# Altium integrated library BB Converter Voltage to Frequency.IntLib: 30 symbols
Pins are listed as number, name and electrical type; pins without a type are passive.

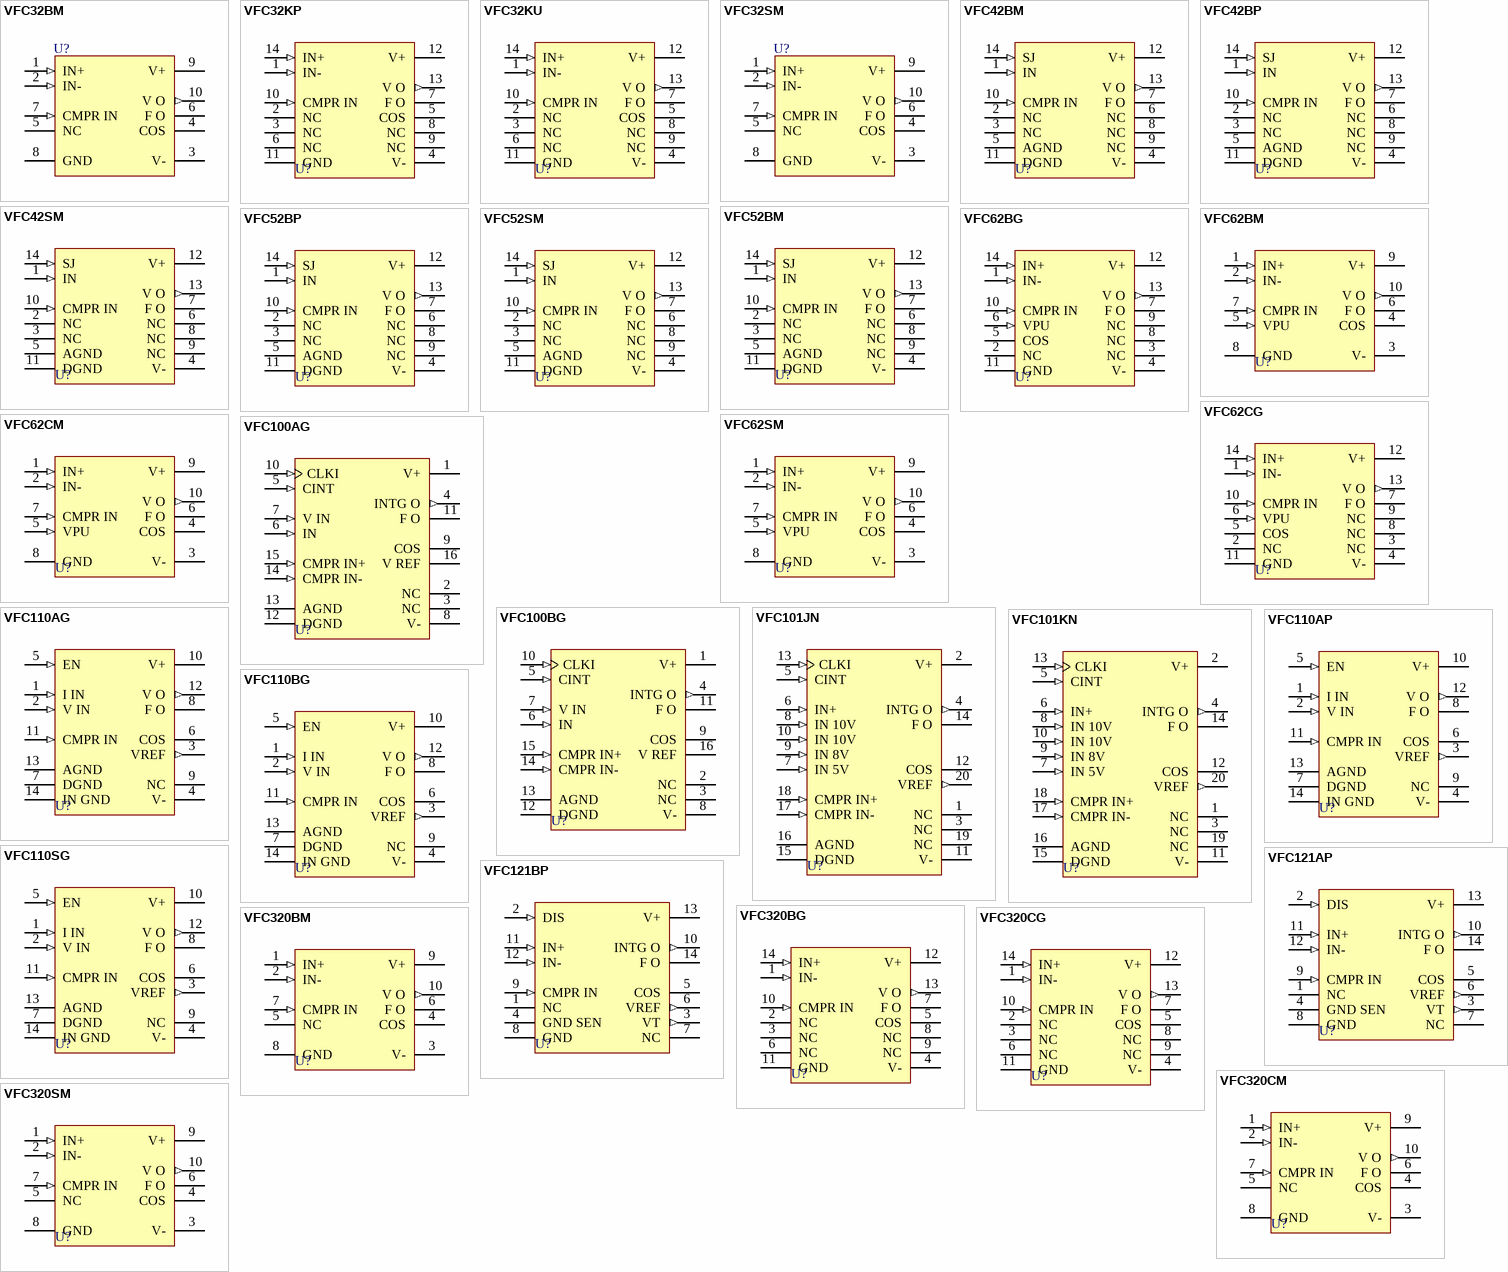
[diagram p0: symbols VFC32BM to VFC320SM]

## VFC32BM
designator U?
Voltage-to-Frequency and Frequency-to-Voltage Converter; Note: Pin 5 is No internal Connection (NC) pin. Case is connected to pin 3 (-VCC); Published: 8-Jun-2000; LatestRevisionDate: 17-Jul-2002; LatestRevisionNote: Re-released for DXP Platform.; DatasheetVersion: Oct-1998; PackageVersion: revA; PackageReference: ZZ007; Publisher: Altium Limited; PackageDescription: Can; 10 Leads; Pin Circle Dia. 5.84 mm (TO-100); Lead Dia. 0.53 mm (max); ComponentLink1Description: Manufacturer Link; ComponentLink1URL: http://www.ti.com/; ComponentLink2Description: Datasheet; ComponentLink2URL: http://www-s.ti.com/sc/ds/VFC32.pdf
footprint ZZ007 (Can; 10 Leads; Pin Circle Dia. 5.84 mm (TO-100); Lead Dia. 0.53 mm (max))
pins: 1 IN+ (in), 2 IN- (in), 3 V- (power), 4 COS, 5 NC, 6 F O (oc), 7 CMPR IN (in), 8 GND (power), 9 V+ (power), 10 V O (out)

## VFC32KP
designator U?
Voltage-to-Frequency and Frequency-to-Voltage Converter; Note: Pins 2,3,6,8 and 9 are No internal Connection (NC) pins.; Published: 8-Jun-2000; LatestRevisionDate: 06-Jun-2005; LatestRevisionNote: Stylized 3D Model Added.; DatasheetVersion: Oct-1998; PackageVersion: 1996/1997; PackageReference: 010G; Publisher: Altium Limited; PackageDescription: DIP; 14 Leads; Row Spacing 7.62 mm; Pitch 2.54 mm; ComponentLink1Description: Manufacturer Link; ComponentLink1URL: http://www.ti.com/; ComponentLink2Description: Datasheet; ComponentLink2URL: http://www-s.ti.com/sc/ds/VFC32.pdf
footprint 010G (DIP; 14 Leads; Row Spacing 7.62 mm; Pitch 2.54 mm)
3D model 010G (DIP; 14 Leads; Row Spacing 7.62 mm; Pitch 2.54 mm)
pins: 1 IN- (in), 2 NC, 3 NC, 4 V- (power), 5 COS, 6 NC, 7 F O (oc), 8 NC, 9 NC, 10 CMPR IN (in), 11 GND (power), 12 V+ (power), 13 V O (out), 14 IN+ (in)

## VFC32KU
designator U?
Voltage-to-Frequency and Frequency-to-Voltage Converter; Note: Pins 2,3,6,8 and 9 are No internal Connection (NC) pins.; Published: 8-Jun-2000; LatestRevisionDate: 13-Apr-2006; LatestRevisionNote: IPC-7351 Footprint Added.; DatasheetVersion: Oct-1998; PackageReference: 235E; Publisher: Altium Limited; PackageDescription: 14-Pin Small Outline Integrated Circuit 1.27 mm Pitch; Code_JEDEC: MS-012-AB; Code_IPC: SOIC127P600-14; ComponentLink1Description: Manufacturer Link; ComponentLink1URL: http://www.ti.com/; ComponentLink2Description: Datasheet; ComponentLink2URL: http://www-s.ti.com/sc/ds/VFC32.pdf
footprint 235E_N (SOIC, 14-Leads, Body 8.7x3.9mm, Pitch 1.27mm, IPC Medium Density)
footprint 235E_L (SOIC, 14-Leads, Body 8.7x3.9mm, Pitch 1.27mm, IPC High Density)
footprint 235E_M (SOIC, 14-Leads, Body 8.7x3.9mm, Pitch 1.27mm, IPC Low Density)
3D model SOIC14 (14-Pin Small Outline Integrated Circuit 1.27 mm Pitch)
pins: 1 IN- (in), 2 NC, 3 NC, 4 V- (power), 5 COS, 6 NC, 7 F O (oc), 8 NC, 9 NC, 10 CMPR IN (in), 11 GND (power), 12 V+ (power), 13 V O (out), 14 IN+ (in)

## VFC32SM
designator U?
Voltage-to-Frequency and Frequency-to-Voltage Converter; Note: Pin 5 is No internal Connection (NC) pin. Case is connected to pin 3 (-VCC); Published: 8-Jun-2000; LatestRevisionDate: 17-Jul-2002; LatestRevisionNote: Re-released for DXP Platform.; DatasheetVersion: Oct-1998; PackageVersion: revA; PackageReference: ZZ007; Publisher: Altium Limited; PackageDescription: Can; 10 Leads; Pin Circle Dia. 5.84 mm (TO-100); Lead Dia. 0.53 mm (max); ComponentLink1Description: Manufacturer Link; ComponentLink1URL: http://www.ti.com/; ComponentLink2Description: Datasheet; ComponentLink2URL: http://www-s.ti.com/sc/ds/VFC32.pdf
footprint ZZ007 (Can; 10 Leads; Pin Circle Dia. 5.84 mm (TO-100); Lead Dia. 0.53 mm (max))
pins: 1 IN+ (in), 2 IN- (in), 3 V- (power), 4 COS, 5 NC, 6 F O (oc), 7 CMPR IN (in), 8 GND (power), 9 V+ (power), 10 V O (out)

## VFC42BM
designator U?
Voltage-to-Frequency and Frequency-to-Voltage Converter; Note: Pins 2, 3, 6, 8 and 9 are No internal Connection (NC) pins.; Published: 8-Jun-2000; LatestRevisionDate: 17-Jul-2002; LatestRevisionNote: Re-released for DXP Platform.; DatasheetVersion: 1989; PackageVersion: 1994; PackageReference: ZZ107; Publisher: Altium Limited; PackageDescription: DIP; 14 Round Pins; Row Space 7.62 mm; Pitch 2.54 mm; ComponentLink1Description: Manufacturer Link; ComponentLink1URL: http://www.ti.com/
footprint ZZ107 (DIP; 14 Round Pins; Row Space 7.62 mm; Pitch 2.54 mm)
pins: 1 IN (in), 2 NC, 3 NC, 4 V- (power), 5 AGND (power), 6 NC, 7 F O (oc), 8 NC, 9 NC, 10 CMPR IN (in), 11 DGND (power), 12 V+ (power), 13 V O (out), 14 SJ (in)

## VFC42BP
designator U?
Voltage-to-Frequency and Frequency-to-Voltage Converter; Note: Pins 2, 3, 6, 8 and 9 are No internal Connection (NC) pins.; Published: 8-Jun-2000; LatestRevisionDate: 17-Jul-2002; LatestRevisionNote: Re-released for DXP Platform.; DatasheetVersion: 1989; PackageVersion: 1995; PackageReference: ZZ003; Publisher: Altium Limited; PackageDescription: DIP; 14 Round Pins; Row Space 7.62 mm; Pitch 2.54 mm; ComponentLink1Description: Manufacturer Link; ComponentLink1URL: http://www.ti.com/
footprint ZZ003 (DIP; 14 Round Pins; Row Space 7.62 mm; Pitch 2.54 mm)
pins: 1 IN (in), 2 NC, 3 NC, 4 V- (power), 5 AGND (power), 6 NC, 7 F O (oc), 8 NC, 9 NC, 10 CMPR IN (in), 11 DGND (power), 12 V+ (power), 13 V O (out), 14 SJ (in)

## VFC42SM
designator U?
Voltage-to-Frequency and Frequency-to-Voltage Converter; Note: Pins 2, 3, 6, 8 and 9 are No internal Connection (NC) pins.; Published: 8-Jun-2000; LatestRevisionDate: 17-Jul-2002; LatestRevisionNote: Re-released for DXP Platform.; DatasheetVersion: 1989; PackageVersion: 1994; PackageReference: ZZ107; Publisher: Altium Limited; PackageDescription: DIP; 14 Round Pins; Row Space 7.62 mm; Pitch 2.54 mm; ComponentLink1Description: Manufacturer Link; ComponentLink1URL: http://www.ti.com/
footprint ZZ107 (DIP; 14 Round Pins; Row Space 7.62 mm; Pitch 2.54 mm)
pins: 1 IN (in), 2 NC, 3 NC, 4 V- (power), 5 AGND (power), 6 NC, 7 F O (oc), 8 NC, 9 NC, 10 CMPR IN (in), 11 DGND (power), 12 V+ (power), 13 V O (out), 14 SJ (in)

## VFC52BM
designator U?
Voltage-to-Frequency and Frequency-to-Voltage Converter; Note: Pins 2, 3, 6, 8 and 9 are No internal Connection (NC) pins.; Published: 8-Jun-2000; LatestRevisionDate: 17-Jul-2002; LatestRevisionNote: Re-released for DXP Platform.; DatasheetVersion: 1989; PackageVersion: 1994; PackageReference: ZZ107; Publisher: Altium Limited; PackageDescription: DIP; 14 Round Pins; Row Space 7.62 mm; Pitch 2.54 mm; ComponentLink1Description: Manufacturer Link; ComponentLink1URL: http://www.ti.com/
footprint ZZ107 (DIP; 14 Round Pins; Row Space 7.62 mm; Pitch 2.54 mm)
pins: 1 IN (in), 2 NC, 3 NC, 4 V- (power), 5 AGND (power), 6 NC, 7 F O (oc), 8 NC, 9 NC, 10 CMPR IN (in), 11 DGND (power), 12 V+ (power), 13 V O (out), 14 SJ (in)

## VFC52BP
designator U?
Voltage-to-Frequency and Frequency-to-Voltage Converter; Note: Pins 2, 3, 6, 8 and 9 are No internal Connection (NC) pins.; Published: 8-Jun-2000; LatestRevisionDate: 17-Jul-2002; LatestRevisionNote: Re-released for DXP Platform.; DatasheetVersion: 1989; PackageVersion: 1995; PackageReference: ZZ003; Publisher: Altium Limited; PackageDescription: DIP; 14 Round Pins; Row Space 7.62 mm; Pitch 2.54 mm; ComponentLink1Description: Manufacturer Link; ComponentLink1URL: http://www.ti.com/
footprint ZZ003 (DIP; 14 Round Pins; Row Space 7.62 mm; Pitch 2.54 mm)
pins: 1 IN (in), 2 NC, 3 NC, 4 V- (power), 5 AGND (power), 6 NC, 7 F O (oc), 8 NC, 9 NC, 10 CMPR IN (in), 11 DGND (power), 12 V+ (power), 13 V O (out), 14 SJ (in)

## VFC52SM
designator U?
Voltage-to-Frequency and Frequency-to-Voltage Converter; Note: Pins 2, 3, 6, 8 and 9 are No internal Connection (NC) pins.; Published: 8-Jun-2000; LatestRevisionDate: 17-Jul-2002; LatestRevisionNote: Re-released for DXP Platform.; DatasheetVersion: 1989; PackageVersion: 1994; PackageReference: ZZ107; Publisher: Altium Limited; PackageDescription: DIP; 14 Round Pins; Row Space 7.62 mm; Pitch 2.54 mm; ComponentLink1Description: Manufacturer Link; ComponentLink1URL: http://www.ti.com/
footprint ZZ107 (DIP; 14 Round Pins; Row Space 7.62 mm; Pitch 2.54 mm)
pins: 1 IN (in), 2 NC, 3 NC, 4 V- (power), 5 AGND (power), 6 NC, 7 F O (oc), 8 NC, 9 NC, 10 CMPR IN (in), 11 DGND (power), 12 V+ (power), 13 V O (out), 14 SJ (in)

## VFC62BG
designator U?
Voltage-to-Frequency and Frequency-to-Voltage Converter; Note: Pins 2, 3, 8 and 9 are No internal Connection (NC) pins.; Published: 8-Jun-2000; LatestRevisionDate: 06-Jun-2005; LatestRevisionNote: Stylized 3D Model Added.; DatasheetVersion: 1989; PackageVersion: 1994; PackageReference: 137; Publisher: Altium Limited; PackageDescription: DIP; 14 Leads; Row Spacing 7.62 mm; Pitch 2.54 mm; ComponentLink1Description: Manufacturer Link; ComponentLink1URL: http://www.ti.com/
footprint 137 (DIP; 14 Leads; Row Spacing 7.62 mm; Pitch 2.54 mm)
3D model 137 (DIP; 14 Leads; Row Spacing 7.62 mm; Pitch 2.54 mm)
pins: 1 IN- (in), 2 NC, 3 NC, 4 V- (power), 5 COS, 6 VPU (in), 7 F O (oc), 8 NC, 9 NC, 10 CMPR IN (in), 11 GND (power), 12 V+ (power), 13 V O (out), 14 IN+ (in)

## VFC62BM
designator U?
Voltage-to-Frequency and Frequency-to-Voltage Converter; Note: Case is connected to pin 3 (-VCC); Published: 8-Jun-2000; LatestRevisionDate: 17-Jul-2002; LatestRevisionNote: Re-released for DXP Platform.; DatasheetVersion: 1989; PackageVersion: revA; PackageReference: ZZ007; Publisher: Altium Limited; PackageDescription: Can; 10 Leads; Pin Circle Dia. 5.84 mm (TO-100); Lead Dia. 0.53 mm (max); ComponentLink1Description: Manufacturer Link; ComponentLink1URL: http://www.ti.com/
footprint ZZ007 (Can; 10 Leads; Pin Circle Dia. 5.84 mm (TO-100); Lead Dia. 0.53 mm (max))
pins: 1 IN+ (in), 2 IN- (in), 3 V- (power), 4 COS, 5 VPU (in), 6 F O (oc), 7 CMPR IN (in), 8 GND (power), 9 V+ (power), 10 V O (out)

## VFC62CG
designator U?
Voltage-to-Frequency and Frequency-to-Voltage Converter; Note: Pins 2, 3, 8 and 9 are No internal Connection (NC) pins.; Published: 8-Jun-2000; LatestRevisionDate: 06-Jun-2005; LatestRevisionNote: Stylized 3D Model Added.; DatasheetVersion: 1989; PackageVersion: 1994; PackageReference: 137; Publisher: Altium Limited; PackageDescription: DIP; 14 Leads; Row Spacing 7.62 mm; Pitch 2.54 mm; ComponentLink1Description: Manufacturer Link; ComponentLink1URL: http://www.ti.com/
footprint 137 (DIP; 14 Leads; Row Spacing 7.62 mm; Pitch 2.54 mm)
3D model 137 (DIP; 14 Leads; Row Spacing 7.62 mm; Pitch 2.54 mm)
pins: 1 IN- (in), 2 NC, 3 NC, 4 V- (power), 5 COS, 6 VPU (in), 7 F O (oc), 8 NC, 9 NC, 10 CMPR IN (in), 11 GND (power), 12 V+ (power), 13 V O (out), 14 IN+ (in)

## VFC62CM
designator U?
Voltage-to-Frequency and Frequency-to-Voltage Converter; Note: Case is connected to pin 3 (-VCC); Published: 8-Jun-2000; LatestRevisionDate: 17-Jul-2002; LatestRevisionNote: Re-released for DXP Platform.; DatasheetVersion: 1989; PackageVersion: revA; PackageReference: ZZ007; Publisher: Altium Limited; PackageDescription: Can; 10 Leads; Pin Circle Dia. 5.84 mm (TO-100); Lead Dia. 0.53 mm (max); ComponentLink1Description: Manufacturer Link; ComponentLink1URL: http://www.ti.com/
footprint ZZ007 (Can; 10 Leads; Pin Circle Dia. 5.84 mm (TO-100); Lead Dia. 0.53 mm (max))
pins: 1 IN+ (in), 2 IN- (in), 3 V- (power), 4 COS, 5 VPU (in), 6 F O (oc), 7 CMPR IN (in), 8 GND (power), 9 V+ (power), 10 V O (out)

## VFC62SM
designator U?
Voltage-to-Frequency and Frequency-to-Voltage Converter; Note: Case is connected to pin 3 (-VCC); Published: 8-Jun-2000; LatestRevisionDate: 17-Jul-2002; LatestRevisionNote: Re-released for DXP Platform.; DatasheetVersion: 1989; PackageVersion: revA; PackageReference: ZZ007; Publisher: Altium Limited; PackageDescription: Can; 10 Leads; Pin Circle Dia. 5.84 mm (TO-100); Lead Dia. 0.53 mm (max); ComponentLink1Description: Manufacturer Link; ComponentLink1URL: http://www.ti.com/
footprint ZZ007 (Can; 10 Leads; Pin Circle Dia. 5.84 mm (TO-100); Lead Dia. 0.53 mm (max))
pins: 1 IN+ (in), 2 IN- (in), 3 V- (power), 4 COS, 5 VPU (in), 6 F O (oc), 7 CMPR IN (in), 8 GND (power), 9 V+ (power), 10 V O (out)

## VFC100AG
designator U?
Synchronized Voltage-to-Frequency Converter; Note: Pins 2 and 3 are No internal Connection (NC) pins.; Published: 8-Jun-2000; LatestRevisionDate: 06-Jun-2005; LatestRevisionNote: Stylized 3D Model Added.; DatasheetVersion: Jun-1995; PackageVersion: revD; PackageReference: ZZ129; Publisher: Altium Limited; PackageDescription: CerDIP; 16 Leads; Row Spacing 7.62 mm; Pitch 2.54 mm; ComponentLink1Description: Manufacturer Link; ComponentLink1URL: http://www.ti.com/; ComponentLink2Description: Datasheet; ComponentLink2URL: http://www-s.ti.com/sc/ds/VFC100.pdf
footprint ZZ129 (CerDIP; 16 Leads; Row Spacing 7.62 mm; Pitch 2.54 mm)
3D model ZZ129 (CerDIP; 16 Leads; Row Spacing 7.62 mm; Pitch 2.54 mm)
pins: 1 V+ (power), 2 NC, 3 NC, 4 INTG O (out), 5 CINT (in), 6 IN (in), 7 V IN (in), 8 V- (power), 9 COS, 10 CLKI (in), 11 F O (oc), 12 DGND (power), 13 AGND (power), 14 CMPR IN- (in), 15 CMPR IN+ (in), 16 V REF

## VFC100BG
designator U?
Synchronized Voltage-to-Frequency Converter; Note: Pins 2 and 3 are No internal Connection (NC) pins.; Published: 8-Jun-2000; LatestRevisionDate: 06-Jun-2005; LatestRevisionNote: Stylized 3D Model Added.; DatasheetVersion: Jun-1995; PackageVersion: revD; PackageReference: ZZ129; Publisher: Altium Limited; PackageDescription: CerDIP; 16 Leads; Row Spacing 7.62 mm; Pitch 2.54 mm; ComponentLink1Description: Manufacturer Link; ComponentLink1URL: http://www.ti.com/; ComponentLink2Description: Datasheet; ComponentLink2URL: http://www-s.ti.com/sc/ds/VFC100.pdf
footprint ZZ129 (CerDIP; 16 Leads; Row Spacing 7.62 mm; Pitch 2.54 mm)
3D model ZZ129 (CerDIP; 16 Leads; Row Spacing 7.62 mm; Pitch 2.54 mm)
pins: 1 V+ (power), 2 NC, 3 NC, 4 INTG O (out), 5 CINT (in), 6 IN (in), 7 V IN (in), 8 V- (power), 9 COS, 10 CLKI (in), 11 F O (oc), 12 DGND (power), 13 AGND (power), 14 CMPR IN- (in), 15 CMPR IN+ (in), 16 V REF

## VFC101JN
designator U?
Synchronized Voltage-to-Frequency Converter; Note: Pins 1, 3 and 19 are No internal Connection (NC) pins.; Published: 8-Jun-2000; LatestRevisionDate: 13-Apr-2006; LatestRevisionNote: IPC-7351 Footprint Added.; DatasheetVersion: 1989; PackageVersion: 1994; PackageReference: 181; Publisher: Altium Limited; PackageDescription: 20-Pin Leaded Chip Carrier 1.27 mm Pitch; Code_IPC: PLCC-20; ComponentLink1Description: Manufacturer Link; ComponentLink1URL: http://www.ti.com/
footprint 181_N (Leaded Chip Carrier, 20-Leads, Body 9x9mm, Pitch 1.27mm, IPC Medium Density)
footprint 181_L (Leaded Chip Carrier, 20-Leads, Body 9x9mm, Pitch 1.27mm, IPC High Density)
footprint 181_M (Leaded Chip Carrier, 20-Leads, Body 9x9mm, Pitch 1.27mm, IPC Low Density)
3D model VFC101JN-LCC20 (20-Pin Leaded Chip Carrier 1.27 mm Pitch)
pins: 1 NC, 2 V+ (power), 3 NC, 4 INTG O (out), 5 CINT (in), 6 IN+ (in), 7 IN 5V (in), 8 IN 10V (in), 9 IN 8V (in), 10 IN 10V (in), 11 V- (power), 12 COS, 13 CLKI (in), 14 F O (oc), 15 DGND (power), 16 AGND (power), 17 CMPR IN- (in), 18 CMPR IN+ (in), 19 NC, 20 VREF (out)

## VFC101KN
designator U?
Synchronized Voltage-to-Frequency Converter; Note: Pins 1, 3 and 19 are No internal Connection (NC) pins.; Published: 8-Jun-2000; LatestRevisionDate: 13-Apr-2006; LatestRevisionNote: IPC-7351 Footprint Added.; DatasheetVersion: 1989; PackageVersion: 1994; PackageReference: 181; Publisher: Altium Limited; PackageDescription: 20-Pin Leaded Chip Carrier 1.27 mm Pitch; Code_IPC: PLCC-20; ComponentLink1Description: Manufacturer Link; ComponentLink1URL: http://www.ti.com/
footprint 181_N (Leaded Chip Carrier, 20-Leads, Body 9x9mm, Pitch 1.27mm, IPC Medium Density)
footprint 181_L (Leaded Chip Carrier, 20-Leads, Body 9x9mm, Pitch 1.27mm, IPC High Density)
footprint 181_M (Leaded Chip Carrier, 20-Leads, Body 9x9mm, Pitch 1.27mm, IPC Low Density)
3D model VFC101KN-LCC20 (20-Pin Leaded Chip Carrier 1.27 mm Pitch)
pins: 1 NC, 2 V+ (power), 3 NC, 4 INTG O (out), 5 CINT (in), 6 IN+ (in), 7 IN 5V (in), 8 IN 10V (in), 9 IN 8V (in), 10 IN 10V (in), 11 V- (power), 12 COS, 13 CLKI (in), 14 F O (oc), 15 DGND (power), 16 AGND (power), 17 CMPR IN- (in), 18 CMPR IN+ (in), 19 NC, 20 VREF (out)

## VFC110AG
designator U?
High-Frequency Voltage-to-Frequency Converter; Note: Pin 9 is No internal Connection (NC) pin.; Published: 8-Jun-2000; LatestRevisionDate: 06-Jun-2005; LatestRevisionNote: Stylized 3D Model Added.; DatasheetVersion: Oct-1993; PackageVersion: 1996/1997; PackageReference: 169F; Publisher: Altium Limited; PackageDescription: DIP; 14 Leads; Row Spacing 7.62 mm; Pitch 2.54 mm; ComponentLink1Description: Manufacturer Link; ComponentLink1URL: http://www.ti.com/; ComponentLink2Description: Datasheet; ComponentLink2URL: http://www-s.ti.com/sc/ds/VFC110.pdf
footprint 169F (DIP; 14 Leads; Row Spacing 7.62 mm; Pitch 2.54 mm)
3D model 010G (DIP; 14 Leads; Row Spacing 7.62 mm; Pitch 2.54 mm)
pins: 1 I IN (in), 2 V IN (in), 3 VREF (out), 4 V- (power), 5 EN (in), 6 COS, 7 DGND (power), 8 F O (oc), 9 NC, 10 V+ (power), 11 CMPR IN (in), 12 V O (out), 13 AGND (power), 14 IN GND (power)

## VFC110AP
designator U?
High-Frequency Voltage-to-Frequency Converter; Note: Pin 9 is No internal Connection (NC) pin.; Published: 8-Jun-2000; LatestRevisionDate: 06-Jun-2005; LatestRevisionNote: Stylized 3D Model Added.; DatasheetVersion: Oct-1993; PackageVersion: 1996/1997; PackageReference: 010G; Publisher: Altium Limited; PackageDescription: DIP; 14 Leads; Row Spacing 7.62 mm; Pitch 2.54 mm; ComponentLink1Description: Manufacturer Link; ComponentLink1URL: http://www.ti.com/; ComponentLink2Description: Datasheet; ComponentLink2URL: http://www-s.ti.com/sc/ds/VFC110.pdf
footprint 010G (DIP; 14 Leads; Row Spacing 7.62 mm; Pitch 2.54 mm)
3D model 010G (DIP; 14 Leads; Row Spacing 7.62 mm; Pitch 2.54 mm)
pins: 1 I IN (in), 2 V IN (in), 3 VREF (out), 4 V- (power), 5 EN (in), 6 COS, 7 DGND (power), 8 F O (oc), 9 NC, 10 V+ (power), 11 CMPR IN (in), 12 V O (out), 13 AGND (power), 14 IN GND (power)

## VFC110BG
designator U?
High-Frequency Voltage-to-Frequency Converter; Note: Pin 9 is No internal Connection (NC) pin.; Published: 8-Jun-2000; LatestRevisionDate: 06-Jun-2005; LatestRevisionNote: Stylized 3D Model Added.; DatasheetVersion: Oct-1993; PackageVersion: 1996/1997; PackageReference: 169F; Publisher: Altium Limited; PackageDescription: DIP; 14 Leads; Row Spacing 7.62 mm; Pitch 2.54 mm; ComponentLink1Description: Manufacturer Link; ComponentLink1URL: http://www.ti.com/; ComponentLink2Description: Datasheet; ComponentLink2URL: http://www-s.ti.com/sc/ds/VFC110.pdf
footprint 169F (DIP; 14 Leads; Row Spacing 7.62 mm; Pitch 2.54 mm)
3D model 010G (DIP; 14 Leads; Row Spacing 7.62 mm; Pitch 2.54 mm)
pins: 1 I IN (in), 2 V IN (in), 3 VREF (out), 4 V- (power), 5 EN (in), 6 COS, 7 DGND (power), 8 F O (oc), 9 NC, 10 V+ (power), 11 CMPR IN (in), 12 V O (out), 13 AGND (power), 14 IN GND (power)

## VFC110SG
designator U?
High-Frequency Voltage-to-Frequency Converter; Note: Pin 9 is No internal Connection (NC) pin.; Published: 8-Jun-2000; LatestRevisionDate: 06-Jun-2005; LatestRevisionNote: Stylized 3D Model Added.; DatasheetVersion: Oct-1993; PackageVersion: 1996/1997; PackageReference: 169F; Publisher: Altium Limited; PackageDescription: DIP; 14 Leads; Row Spacing 7.62 mm; Pitch 2.54 mm; ComponentLink1Description: Manufacturer Link; ComponentLink1URL: http://www.ti.com/; ComponentLink2Description: Datasheet; ComponentLink2URL: http://www-s.ti.com/sc/ds/VFC110.pdf
footprint 169F (DIP; 14 Leads; Row Spacing 7.62 mm; Pitch 2.54 mm)
3D model 010G (DIP; 14 Leads; Row Spacing 7.62 mm; Pitch 2.54 mm)
pins: 1 I IN (in), 2 V IN (in), 3 VREF (out), 4 V- (power), 5 EN (in), 6 COS, 7 DGND (power), 8 F O (oc), 9 NC, 10 V+ (power), 11 CMPR IN (in), 12 V O (out), 13 AGND (power), 14 IN GND (power)

## VFC121AP
designator U?
Precision Single Power Supply Voltage-to-Frequency Converter; Note: Pins 1 and 7 are No internal Connection (NC) pin.; Published: 8-Jun-2000; LatestRevisionDate: 06-Jun-2005; LatestRevisionNote: Stylized 3D Model Added.; DatasheetVersion: Mar-1992; PackageVersion: 1996/1997; PackageReference: 010G; Publisher: Altium Limited; PackageDescription: DIP; 14 Leads; Row Spacing 7.62 mm; Pitch 2.54 mm; ComponentLink1Description: Manufacturer Link; ComponentLink1URL: http://www.ti.com/; ComponentLink2Description: Datasheet; ComponentLink2URL: http://www-s.ti.com/sc/ds/VFC121.pdf
footprint 010G (DIP; 14 Leads; Row Spacing 7.62 mm; Pitch 2.54 mm)
3D model 010G (DIP; 14 Leads; Row Spacing 7.62 mm; Pitch 2.54 mm)
pins: 1 NC, 2 DIS (in), 3 VT (out), 4 GND SEN (power), 5 COS, 6 VREF (out), 7 NC, 8 GND (power), 9 CMPR IN (in), 10 INTG O (out), 11 IN+ (in), 12 IN- (in), 13 V+ (power), 14 F O (oc)

## VFC121BP
designator U?
Precision Single Power Supply Voltage-to-Frequency Converter; Note: Pins 1 and 7 are No internal Connection (NC) pin.; Published: 8-Jun-2000; LatestRevisionDate: 06-Jun-2005; LatestRevisionNote: Stylized 3D Model Added.; DatasheetVersion: Mar-1992; PackageVersion: 1996/1997; PackageReference: 010G; Publisher: Altium Limited; PackageDescription: DIP; 14 Leads; Row Spacing 7.62 mm; Pitch 2.54 mm; ComponentLink1Description: Manufacturer Link; ComponentLink1URL: http://www.ti.com/; ComponentLink2Description: Datasheet; ComponentLink2URL: http://www-s.ti.com/sc/ds/VFC121.pdf
footprint 010G (DIP; 14 Leads; Row Spacing 7.62 mm; Pitch 2.54 mm)
3D model 010G (DIP; 14 Leads; Row Spacing 7.62 mm; Pitch 2.54 mm)
pins: 1 NC, 2 DIS (in), 3 VT (out), 4 GND SEN (power), 5 COS, 6 VREF (out), 7 NC, 8 GND (power), 9 CMPR IN (in), 10 INTG O (out), 11 IN+ (in), 12 IN- (in), 13 V+ (power), 14 F O (oc)

## VFC320BG
designator U?
Voltage-to-Frequency and Frequency-to-Voltage Converter; Note: Pins 2,3,6,8 and 9 are No internal Connection (NC) pins.; Published: 8-Jun-2000; LatestRevisionDate: 06-Jun-2005; LatestRevisionNote: Stylized 3D Model Added.; DatasheetVersion: Aug-1993; PackageVersion: revC; PackageReference: 163C; Publisher: Altium Limited; PackageDescription: DIP; 14 Leads; Row Spacing 7.62 mm; Pitch 2.54 mm; ComponentLink1Description: Manufacturer Link; ComponentLink1URL: http://www.ti.com/; ComponentLink2Description: Datasheet; ComponentLink2URL: http://www-s.ti.com/sc/ds/VFC320.pdf
footprint 163C (DIP; 14 Leads; Row Spacing 7.62 mm; Pitch 2.54 mm)
3D model 010G (DIP; 14 Leads; Row Spacing 7.62 mm; Pitch 2.54 mm)
pins: 1 IN- (in), 2 NC, 3 NC, 4 V- (power), 5 COS, 6 NC, 7 F O (oc), 8 NC, 9 NC, 10 CMPR IN (in), 11 GND (power), 12 V+ (power), 13 V O (out), 14 IN+ (in)

## VFC320BM
designator U?
Voltage-to-Frequency and Frequency-to-Voltage Converter; Note: Pin 5 is No internal Connection (NC) pin. Case is connected to pin 3 (-VCC); Published: 8-Jun-2000; LatestRevisionDate: 17-Jul-2002; LatestRevisionNote: Re-released for DXP Platform.; DatasheetVersion: Aug-1993; PackageVersion: revA; PackageReference: ZZ007; Publisher: Altium Limited; PackageDescription: Can; 10 Leads; Pin Circle Dia. 5.84 mm (TO-100); Lead Dia. 0.53 mm (max); ComponentLink1Description: Manufacturer Link; ComponentLink1URL: http://www.ti.com/; ComponentLink2Description: Datasheet; ComponentLink2URL: http://www-s.ti.com/sc/ds/VFC320.pdf
footprint ZZ007 (Can; 10 Leads; Pin Circle Dia. 5.84 mm (TO-100); Lead Dia. 0.53 mm (max))
pins: 1 IN+ (in), 2 IN- (in), 3 V- (power), 4 COS, 5 NC, 6 F O (oc), 7 CMPR IN (in), 8 GND (power), 9 V+ (power), 10 V O (out)

## VFC320CG
designator U?
Voltage-to-Frequency and Frequency-to-Voltage Converter; Note: Pins 2,3,6,8 and 9 are No internal Connection (NC) pins.; Published: 8-Jun-2000; LatestRevisionDate: 06-Jun-2005; LatestRevisionNote: Stylized 3D Model Added.; DatasheetVersion: Aug-1993; PackageVersion: revC; PackageReference: 163C; Publisher: Altium Limited; PackageDescription: DIP; 14 Leads; Row Spacing 7.62 mm; Pitch 2.54 mm; ComponentLink1Description: Manufacturer Link; ComponentLink1URL: http://www.ti.com/; ComponentLink2Description: Datasheet; ComponentLink2URL: http://www-s.ti.com/sc/ds/VFC320.pdf
footprint 163C (DIP; 14 Leads; Row Spacing 7.62 mm; Pitch 2.54 mm)
3D model 010G (DIP; 14 Leads; Row Spacing 7.62 mm; Pitch 2.54 mm)
pins: 1 IN- (in), 2 NC, 3 NC, 4 V- (power), 5 COS, 6 NC, 7 F O (oc), 8 NC, 9 NC, 10 CMPR IN (in), 11 GND (power), 12 V+ (power), 13 V O (out), 14 IN+ (in)

## VFC320CM
designator U?
Voltage-to-Frequency and Frequency-to-Voltage Converter; Note: Pin 5 is No internal Connection (NC) pin. Case is connected to pin 3 (-VCC); Published: 8-Jun-2000; LatestRevisionDate: 17-Jul-2002; LatestRevisionNote: Re-released for DXP Platform.; DatasheetVersion: Aug-1993; PackageVersion: revA; PackageReference: ZZ007; Publisher: Altium Limited; PackageDescription: Can; 10 Leads; Pin Circle Dia. 5.84 mm (TO-100); Lead Dia. 0.53 mm (max); ComponentLink1Description: Manufacturer Link; ComponentLink1URL: http://www.ti.com/; ComponentLink2Description: Datasheet; ComponentLink2URL: http://www-s.ti.com/sc/ds/VFC320.pdf
footprint ZZ007 (Can; 10 Leads; Pin Circle Dia. 5.84 mm (TO-100); Lead Dia. 0.53 mm (max))
pins: 1 IN+ (in), 2 IN- (in), 3 V- (power), 4 COS, 5 NC, 6 F O (oc), 7 CMPR IN (in), 8 GND (power), 9 V+ (power), 10 V O (out)

## VFC320SM
designator U?
Voltage-to-Frequency and Frequency-to-Voltage Converter; Note: Pin 5 is No internal Connection (NC) pin. Case is connected to pin 3 (-VCC); Published: 8-Jun-2000; LatestRevisionDate: 17-Jul-2002; LatestRevisionNote: Re-released for DXP Platform.; DatasheetVersion: Aug-1993; PackageVersion: revA; PackageReference: ZZ007; Publisher: Altium Limited; PackageDescription: Can; 10 Leads; Pin Circle Dia. 5.84 mm (TO-100); Lead Dia. 0.53 mm (max); ComponentLink1Description: Manufacturer Link; ComponentLink1URL: http://www.ti.com/; ComponentLink2Description: Datasheet; ComponentLink2URL: http://www-s.ti.com/sc/ds/VFC320.pdf
footprint ZZ007 (Can; 10 Leads; Pin Circle Dia. 5.84 mm (TO-100); Lead Dia. 0.53 mm (max))
pins: 1 IN+ (in), 2 IN- (in), 3 V- (power), 4 COS, 5 NC, 6 F O (oc), 7 CMPR IN (in), 8 GND (power), 9 V+ (power), 10 V O (out)